# Altium schematic symbol library QUTMS_LEDLibrary.SchLib: 7 symbols
Pins are listed as number, name and electrical type; pins without a type are passive.

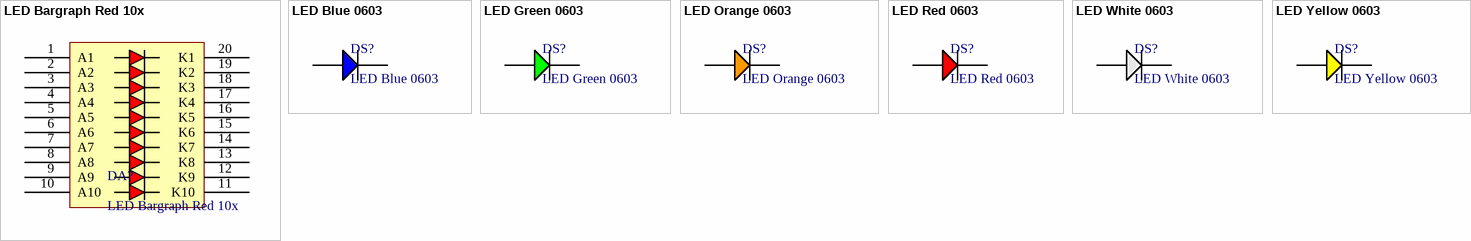
[diagram p0: symbols LED Bargraph Red 10x to LED Yellow 0603]

## LED Bargraph Red 10x
designator DA?
footprint LED DIP RED 10
pins: 1 A1, 2 A2, 3 A3, 4 A4, 5 A5, 6 A6, 7 A7, 8 A8, 9 A9, 10 A10, 11 K10, 12 K9, 13 K8, 14 K7, 15 K6, 16 K5, 17 K4, 18 K3, 19 K2, 20 K1

## LED Blue 0603
designator DS?
footprint LED BLUE 0603
pins: 1 A, 2 C

## LED Green 0603
designator DS?
footprint LED GREEN 0603
pins: 1 A, 2 C

## LED Orange 0603
designator DS?
footprint LED ORANGE 0603
pins: 1 A, 2 C

## LED Red 0603
designator DS?
footprint LED RED 0603
pins: 1 A, 2 C

## LED White 0603
designator DS?
footprint LED WHITE 0603
pins: 1 A, 2 C

## LED Yellow 0603
designator DS?
footprint LED YELLOW 0603
pins: 1 A, 2 C